# EAGLE library part PROG_CONNECTOR (library ads1292_Dorokhov)
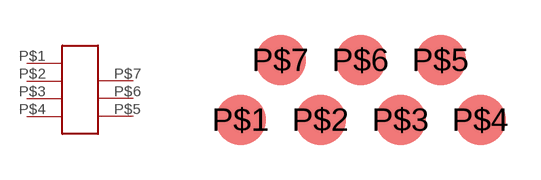
[diagram p5: symbol with the pads of PROG_CONNECTOR; footprint PROG_CONNECTOR]

Designator prefix -

## PROG_CONNECTOR  [PROG_CONNECTOR]
P$1  P$1
P$2  P$2
P$3  P$3
P$4  P$4
P$5  P$5
P$6  P$6
P$7  P$7

## Footprint PROG_CONNECTOR (pad centres in mm)
smd 1.27 x 1.27: P$1 -1.5,-0.5; P$2 0.5,-0.5; P$3 2.5,-0.5; P$4 4.5,-0.5; P$5 3.5,1; P$6 1.5,1; P$7 -0.5,1